# Altium schematic symbol library Ports3.96.SchLib: 6 symbols
Pins are listed as number, name and electrical type; pins without a type are passive.

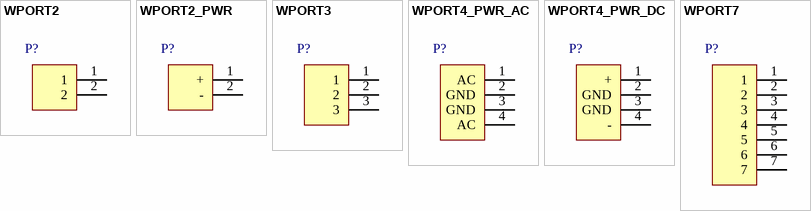
[diagram p0: symbols WPORT2 to WPORT7]

## WPORT2
designator P?
3.96mm 2 pin port
footprint VH3.96-2P
pins: 1, 2

## WPORT2_PWR
designator P?
2 pin power port
footprint VH3.96-POWER-2P
pins: 1 +, 2 -

## WPORT3
designator P?
3.96mm 3 pin port
footprint VH3.96-3P
pins: 1, 2, 3

## WPORT4_PWR_AC
designator P?
4 pin ac power port
footprint VH3.96-POWER-4P-AC
pins: 1 AC, 2 GND, 3 GND, 4 AC

## WPORT4_PWR_DC
designator P?
4 pin power port
footprint VH3.96-POWER-4P-DC
pins: 1 +, 2 GND, 3 GND, 4 -

## WPORT7
designator P?
3.96mm 7 pin port
footprint VH3.96-7P
pins: 1, 2, 3, 4, 5, 6, 7